# Altium schematic symbol library NRF24L01.SchLib: 1 symbol
Pins are listed as number, name and electrical type; pins without a type are passive.

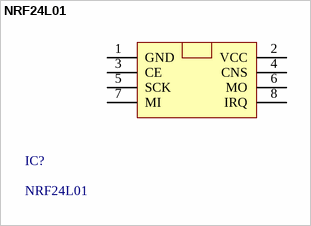
[diagram p0: symbol NRF24L01]

## NRF24L01
designator IC?
pins: 1 GND (power), 2 VCC (power), 3 CE, 4 CNS, 5 SCK, 6 MO, 7 MI, 8 IRQ